# Altium schematic symbol library 150nH_inductor_0805_Components - 15.03.22 - 20.58.SchLib: 1 symbol
Pins are listed as number, name and electrical type; pins without a type are passive.

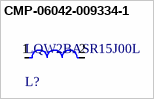
[diagram p0: symbol CMP-06042-009334-1]

## CMP-06042-009334-1
designator L?, comment LQW2BASR15J00L
Wire Wound RF Inductor 150nH ±5% 400mA 0.56Ω 0805 (2015); DC Resistance (DCR): 560mR; Self Resonant Frequency: 920MHz; Shielding: Unshielded; Test Frequency: 100MHz; Core Material: Air; Q Factor: 50; Height - Seated (Max): 0.06inch; Military Standard: Not; Case/Package: 0805; Max Operating Temperature: 125°C; Mount: Surface Mount; Weight: 0.000494oz; Termination: SMD/SMT; Min Operating Temperature: -55°C; Radiation Hardening: No; Max DC Current: 400mA; Height: 1.42mm; DC Current: 400mA; Current Rating: 400mA; Inductance: 150nH; Case Code (Metric): 2015; Width: 0.06inch; Packaging: Tape and Reel; Depth: 1.73mm; Resistor Type: Wirewound; Package Quantity: 2000; Length: 0.082inch; Tolerance: 5%; Case Code (Imperial): 0806
footprint FP-LQW2BAN_00-MFG
pins: 1, 2